# EAGLE library part SI3456DDV-T1-GE3 (library Vishay_By_element14_Batch_1)
N-Channel 30-V (D-S) MOSFET
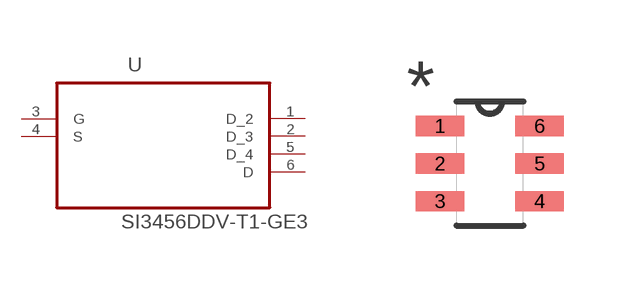
[diagram p78: symbol with the pads of SOT95P285X110-6N; footprint SOT95P285X110-6N]

Designator prefix U

## SI3456DDV-T1-GE3 (MPN: SI3456DDV-T1-GE3; OC_FARNELL: 1840419; OC_NEWARK: 90R9126; PACKAGE: TSOP-6; SUPPLIER: Vishay Siliconix)  [SOT95P285X110-6N]
1  D_2  pas
2  D_3  pas
3  G  pas
4  S  pas
5  D_4  pas
6  D  pas

## Footprint SOT95P285X110-6N (pad centres in mm)
smd 1.219 x 0.508: 1 -1.245,0.94; 2 -1.245,0; 3 -1.245,-0.94; 4 1.245,-0.94; 5 1.245,0; 6 1.245,0.94